# EAGLE library part TPS6211X (library U-TI-TPS6211x-SPS-buck)
TPS6211x 17-V, 1.5-A, Synchronous Step-Down Converter
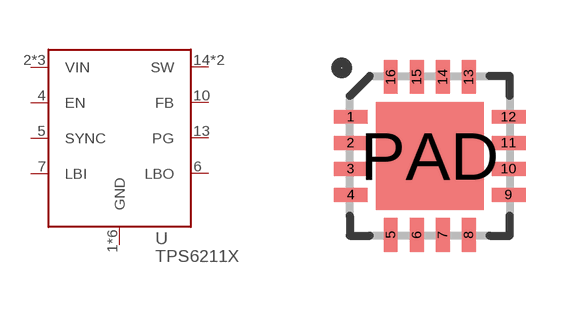
[diagram p0: symbol with the pads of S-PVQFN-16; footprint S-PVQFN-16]

Designator prefix U

## TPS6211X  [S-PVQFN-16]
1  GND  pwr
2  VIN  pwr
3  VIN  pwr
4  EN  in
5  SYNC  in
6  LBO  oc
7  LBI  in
8  VIN  pwr
9  GND  pwr
10  FB  in
11  GND  pwr
12  GND  pwr
13  PG  oc
14  SW  out
15  SW  out
16  GND  pwr
PAD  GND  pwr

## Footprint S-PVQFN-16 (pad centres in mm)
smd 0.85 x 0.35: 1 -1.975,0.975; 2 -1.975,0.325; 3 -1.975,-0.325; 4 -1.975,-0.975; 9 1.975,-0.975; 10 1.975,-0.325; 11 1.975,0.325; 12 1.975,0.975
smd 0.35 x 0.85: 5 -0.975,-1.975; 6 -0.325,-1.975; 7 0.325,-1.975; 8 0.975,-1.975; 13 0.975,1.975; 14 0.325,1.975; 15 -0.325,1.975; 16 -0.975,1.975
smd 2.7 x 2.7: PAD 0,0